# Altium integrated library BUZZ_MIC.IntLib: 7 symbols
Pins are listed as number, name and electrical type; pins without a type are passive.

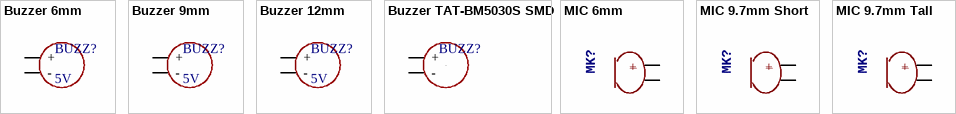
[diagram p0: symbols Buzzer 6mm to MIC 9.7mm Tall]

## Buzzer 6mm
designator BUZZ?, comment 5V
footprint BUZ_6MM
pins: 1 +, 2 -

## Buzzer 9mm
designator BUZZ?, comment 5V
footprint BUZ_9MM
pins: 1 +, 2 -

## Buzzer 12mm
designator BUZZ?, comment 5V
footprint BUZ_12MM
pins: 1 +, 2 -

## Buzzer TAT-BM5030S SMD
designator BUZZ?, comment TAT-BM5030S  (value not drawn)
VALUE: TAT-BM5030S
footprint BUZ_SMD
pins: 0, 1 +, 2 -

## MIC 6mm
designator MK?
PROD_ID: COMP-08856; SF_ID: COM-08635
footprint MIC-6MM
pins: 1 GND, 2 OUT
text: +; _

## MIC 9.7mm Short
designator MK?, comment MIC-PTH  (value not drawn)
PROD_ID: COMP-08856; SF_ID: COM-08635
footprint MIC-9.7MM
pins: 1 GND, 2 OUT
text: +; _

## MIC 9.7mm Tall
designator MK?, comment MIC-PTH  (value not drawn)
PROD_ID: COMP-08856; SF_ID: COM-08635
footprint MIC-9.7MM-TALL
pins: 1 GND, 2 OUT
text: +; _